# Altium integrated library Lattice FPGA ECP2.IntLib: 320 symbols (part 6 of 42)
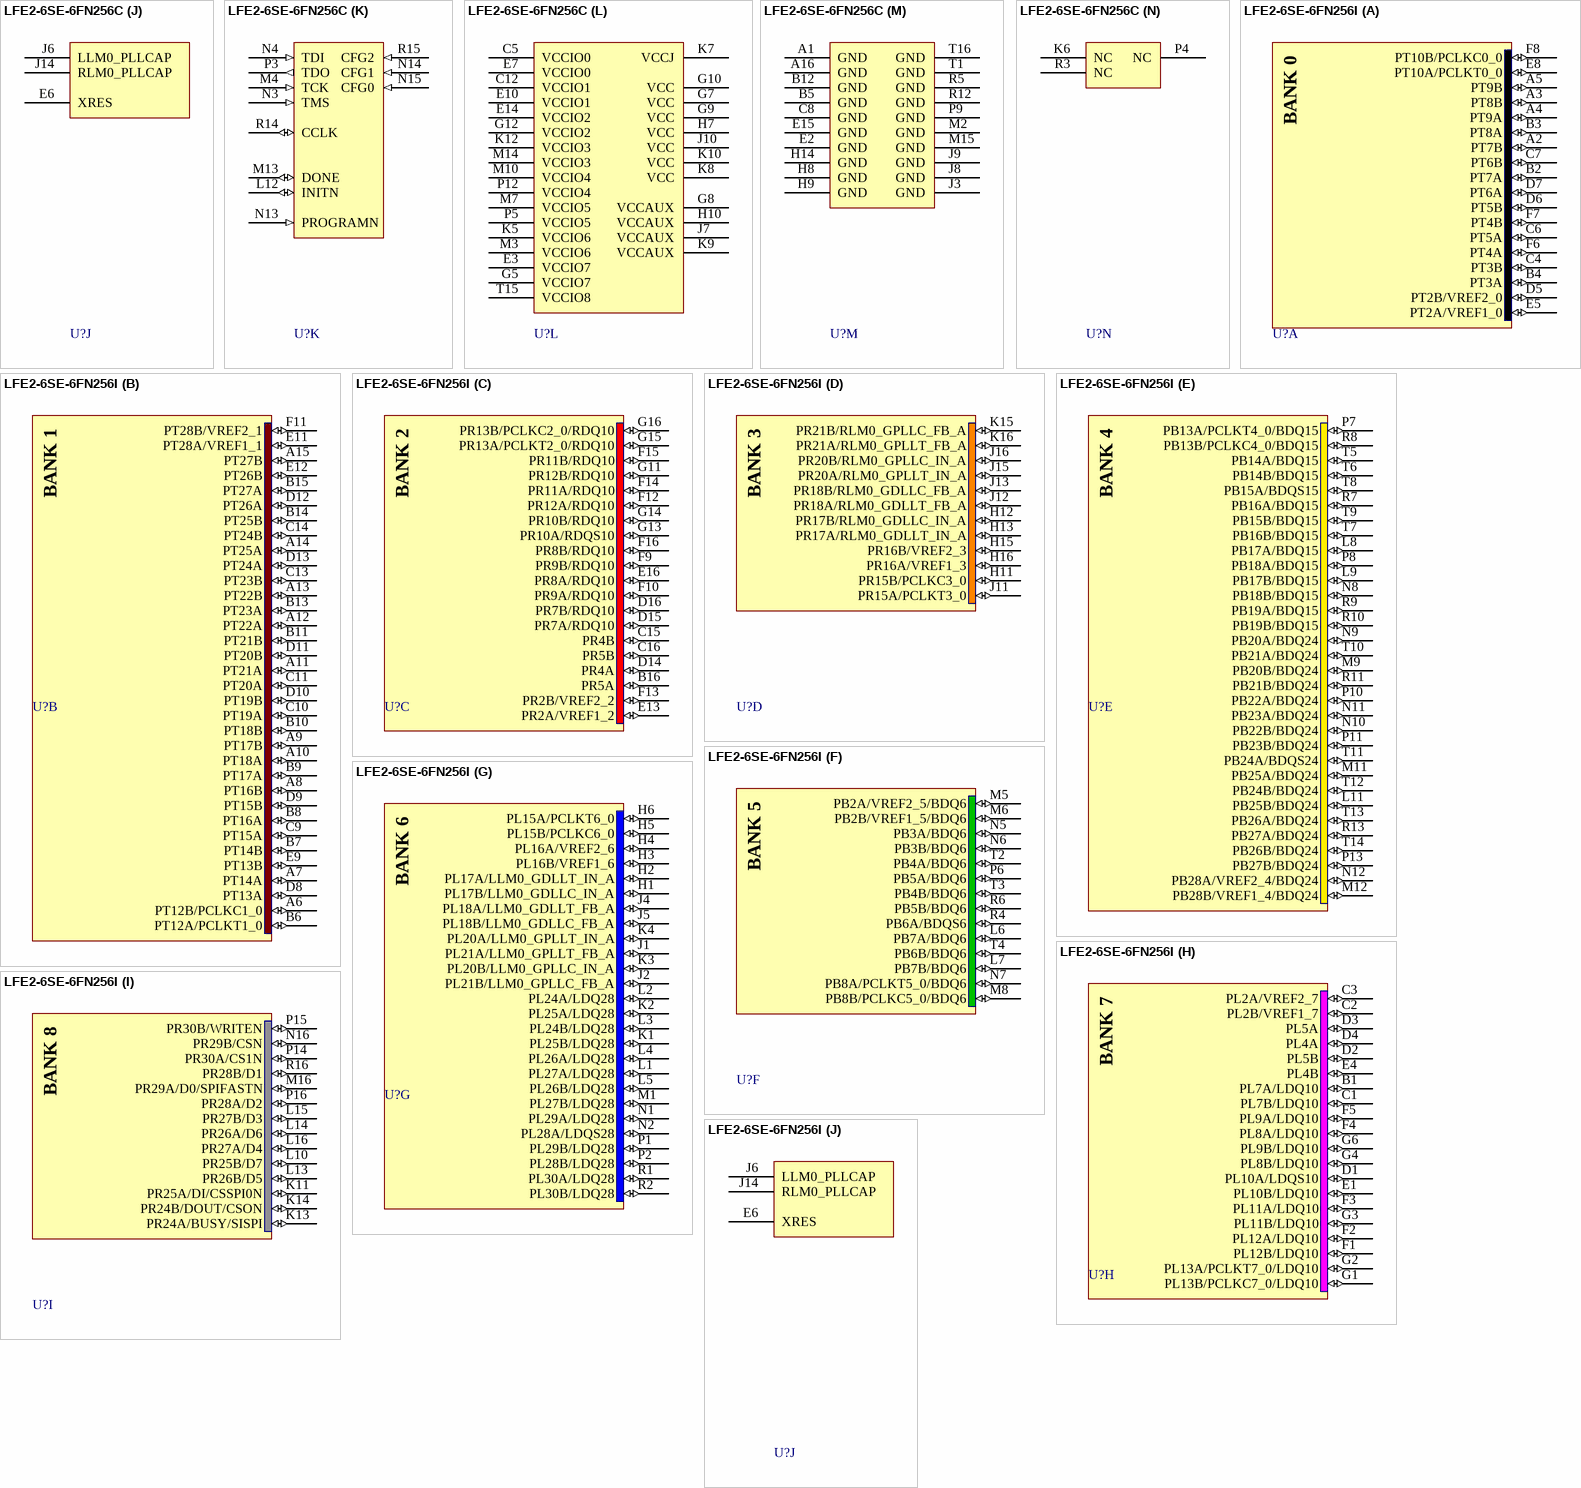
[diagram p501: symbols LFE2-6SE-6FN256C to LFE2-6SE-6FN256I]

## LFE2-6SE-6FN256C
designator U?
ECP2 1.2V FPGA, Security Series, 190 I/Os, 6K LUTs, 256-Ball fpBGA, Speed Grade 6, Commercial Grade, Pb-Free; Published: 30-Apr-2009; DatasheetVersion: ver04.3, Mar-2009; PackageVersion: ver01.8, Dec-2008; PackageReference: fpBGA256; Publisher: Altium Limited; PackageDescription: 256-Ball Fine Pitch Ball Grid Array (fpBGA256); Code_IPC: BGA100P16X16-256; ComponentLink1Description: Manufacturer Link; ComponentLink1URL: http://www.latticesemi.com/products/fpga/ecp2/index.cfm; ComponentLink2Description: Datasheet; ComponentLink2URL: http://www.latticesemi.com/documents/HB1003.pdf
footprint fpBGA256 (BGA, 256-Leads, Body 17x17mm, Pitch 1mm)
3D model LFE2-6SE_F256 (256-Ball Fine Pitch Ball Grid Array (fpBGA256))
part A pins: A2 PT7B (io), A3 PT8B (io), A4 PT9A (io), A5 PT9B (io), B2 PT7A (io), B3 PT8A (io), B4 PT3A (io), C4 PT3B (io), C6 PT5A (io), C7 PT6B (io), D5 PT2B/VREF2_0 (io), D6 PT5B (io), D7 PT6A (io), E5 PT2A/VREF1_0 (io), E8 PT10A/PCLKT0_0 (io), F6 PT4A (io), F7 PT4B (io), F8 PT10B/PCLKC0_0 (io)
part B pins: A6 PT12B/PCLKC1_0 (io), A7 PT14A (io), A8 PT16B (io), A9 PT17B (io), A10 PT18A (io), A11 PT21A (io), A12 PT22A (io), A13 PT22B (io), A14 PT25A (io), A15 PT27B (io), B6 PT12A/PCLKT1_0 (io), B7 PT14B (io), B8 PT16A (io), B9 PT17A (io), B10 PT18B (io), B11 PT21B (io), B13 PT23A (io), B14 PT25B (io), B15 PT27A (io), C9 PT15A (io), C10 PT19A (io), C11 PT20A (io), C13 PT23B (io), C14 PT24B (io), D8 PT13A (io), D9 PT15B (io), D10 PT19B (io), D11 PT20B (io), D12 PT26A (io), D13 PT24A (io), E9 PT13B (io), E11 PT28A/VREF1_1 (io), E12 PT26B (io), F11 PT28B/VREF2_1 (io)
part C pins: B16 PR5A (io), C15 PR4B (io), C16 PR5B (io), D14 PR4A (io), D15 PR7A/RDQ10 (io), D16 PR7B/RDQ10 (io), E13 PR2A/VREF1_2 (io), E16 PR8A/RDQ10 (io), F9 PR9B/RDQ10 (io), F10 PR9A/RDQ10 (io), F12 PR12A/RDQ10 (io), F13 PR2B/VREF2_2 (io), F14 PR11A/RDQ10 (io), F15 PR11B/RDQ10 (io), F16 PR8B/RDQ10 (io), G11 PR12B/RDQ10 (io), G13 PR10A/RDQS10 (io), G14 PR10B/RDQ10 (io), G15 PR13A/PCLKT2_0/RDQ10 (io), G16 PR13B/PCLKC2_0/RDQ10 (io)
part D pins: H11 PR15B/PCLKC3_0 (io), H12 PR17B/RLM0_GDLLC_IN_A (io), H13 PR17A/RLM0_GDLLT_IN_A (io), H15 PR16B/VREF2_3 (io), H16 PR16A/VREF1_3 (io), J11 PR15A/PCLKT3_0 (io), J12 PR18A/RLM0_GDLLT_FB_A (io), J13 PR18B/RLM0_GDLLC_FB_A (io), J15 PR20A/RLM0_GPLLT_IN_A (io), J16 PR20B/RLM0_GPLLC_IN_A (io), K15 PR21B/RLM0_GPLLC_FB_A (io), K16 PR21A/RLM0_GPLLT_FB_A (io)
part E pins: L8 PB17A/BDQ15 (io), L9 PB17B/BDQ15 (io), L11 PB25B/BDQ24 (io), M9 PB20B/BDQ24 (io), M11 PB25A/BDQ24 (io), M12 PB28B/VREF1_4/BDQ24 (io), N8 PB18B/BDQ15 (io), N9 PB20A/BDQ24 (io), N10 PB22B/BDQ24 (io), N11 PB23A/BDQ24 (io), N12 PB28A/VREF2_4/BDQ24 (io), P7 PB13A/PCLKT4_0/BDQ15 (io), P8 PB18A/BDQ15 (io), P10 PB22A/BDQ24 (io), P11 PB23B/BDQ24 (io), P13 PB27B/BDQ24 (io), R7 PB16A/BDQ15 (io), R8 PB13B/PCLKC4_0/BDQ15 (io), R9 PB19A/BDQ15 (io), R10 PB19B/BDQ15 (io), R11 PB21B/BDQ24 (io), R13 PB27A/BDQ24 (io), T5 PB14A/BDQ15 (io), T6 PB14B/BDQ15 (io), T7 PB16B/BDQ15 (io), T8 PB15A/BDQS15 (io), T9 PB15B/BDQ15 (io), T10 PB21A/BDQ24 (io), T11 PB24A/BDQS24 (io), T12 PB24B/BDQ24 (io), T13 PB26A/BDQ24 (io), T14 PB26B/BDQ24 (io)
part F pins: L6 PB7A/BDQ6 (io), L7 PB7B/BDQ6 (io), M5 PB2A/VREF2_5/BDQ6 (io), M6 PB2B/VREF1_5/BDQ6 (io), M8 PB8B/PCLKC5_0/BDQ6 (io), N5 PB3A/BDQ6 (io), N6 PB3B/BDQ6 (io), N7 PB8A/PCLKT5_0/BDQ6 (io), P6 PB5A/BDQ6 (io), R4 PB6A/BDQS6 (io), R6 PB5B/BDQ6 (io), T2 PB4A/BDQ6 (io), T3 PB4B/BDQ6 (io), T4 PB6B/BDQ6 (io)
part G pins: H1 PL17B/LLM0_GDLLC_IN_A (io), H2 PL17A/LLM0_GDLLT_IN_A (io), H3 PL16B/VREF1_6 (io), H4 PL16A/VREF2_6 (io), H5 PL15B/PCLKC6_0 (io), H6 PL15A/PCLKT6_0 (io), J1 PL21A/LLM0_GPLLT_FB_A (io), J2 PL21B/LLM0_GPLLC_FB_A (io), J4 PL18A/LLM0_GDLLT_FB_A (io), J5 PL18B/LLM0_GDLLC_FB_A (io), K1 PL25B/LDQ28 (io), K2 PL25A/LDQ28 (io), K3 PL20B/LLM0_GPLLC_IN_A (io), K4 PL20A/LLM0_GPLLT_IN_A (io), L1 PL27A/LDQ28 (io), L2 PL24A/LDQ28 (io), L3 PL24B/LDQ28 (io), L4 PL26A/LDQ28 (io), L5 PL26B/LDQ28 (io), M1 PL27B/LDQ28 (io), N1 PL29A/LDQ28 (io), N2 PL28A/LDQS28 (io), P1 PL29B/LDQ28 (io), P2 PL28B/LDQ28 (io), R1 PL30A/LDQ28 (io), R2 PL30B/LDQ28 (io)
part H pins: B1 PL7A/LDQ10 (io), C1 PL7B/LDQ10 (io), C2 PL2B/VREF1_7 (io), C3 PL2A/VREF2_7 (io), D1 PL10A/LDQS10 (io), D2 PL5B (io), D3 PL5A (io), D4 PL4A (io), E1 PL10B/LDQ10 (io), E4 PL4B (io), F1 PL12B/LDQ10 (io), F2 PL12A/LDQ10 (io), F3 PL11A/LDQ10 (io), F4 PL8A/LDQ10 (io), F5 PL9A/LDQ10 (io), G1 PL13B/PCLKC7_0/LDQ10 (io), G2 PL13A/PCLKT7_0/LDQ10 (io), G3 PL11B/LDQ10 (io), G4 PL8B/LDQ10 (io), G6 PL9B/LDQ10 (io)
part I pins: K11 PR25A/DI/CSSPI0N (io), K13 PR24A/BUSY/SISPI (io), K14 PR24B/DOUT/CSON (io), L10 PR25B/D7 (io), L13 PR26B/D5 (io), L14 PR26A/D6 (io), L15 PR27B/D3 (io), L16 PR27A/D4 (io), M16 PR29A/D0/SPIFASTN (io), N16 PR29B/CSN (io), P14 PR30A/CS1N (io), P15 PR30B/WRITEN (io), P16 PR28A/D2 (io), R16 PR28B/D1 (io)
part J pins: E6 XRES, J6 LLM0_PLLCAP, J14 RLM0_PLLCAP
part K pins: L12 INITN (io), M4 TCK (in), M13 DONE (io), N3 TMS (in), N4 TDI (in), N13 PROGRAMN (in), N14 CFG1 (in), N15 CFG0 (in), P3 TDO (out), R14 CCLK (io), R15 CFG2 (in)
part L pins: C5 VCCIO0 (power), C12 VCCIO1 (power), E3 VCCIO7 (power), E7 VCCIO0 (power), E10 VCCIO1 (power), E14 VCCIO2 (power), G5 VCCIO7 (power), G7 VCC (power), G8 VCCAUX (power), G9 VCC (power), G10 VCC (power), G12 VCCIO2 (power), H7 VCC (power), H10 VCCAUX (power), J7 VCCAUX (power), J10 VCC (power), K5 VCCIO6 (power), K7 VCCJ (power), K8 VCC (power), K9 VCCAUX (power), K10 VCC (power), K12 VCCIO3 (power), M3 VCCIO6 (power), M7 VCCIO5 (power), M10 VCCIO4 (power), M14 VCCIO3 (power), P5 VCCIO5 (power), P12 VCCIO4 (power), T15 VCCIO8 (power)
part M pins: A1 GND (power), A16 GND (power), B5 GND (power), B12 GND (power), C8 GND (power), E2 GND (power), E15 GND (power), H8 GND (power), H9 GND (power), H14 GND (power), J3 GND (power), J8 GND (power), J9 GND (power), M2 GND (power), M15 GND (power), P9 GND (power), R5 GND (power), R12 GND (power), T1 GND (power), T16 GND (power)
part N pins: K6 NC, P4 NC, R3 NC
part A text: BANK 0
part B text: BANK 1
part C text: BANK 2
part D text: BANK 3
part E text: BANK 4
part F text: BANK 5
part G text: BANK 6
part H text: BANK 7
part I text: BANK 8

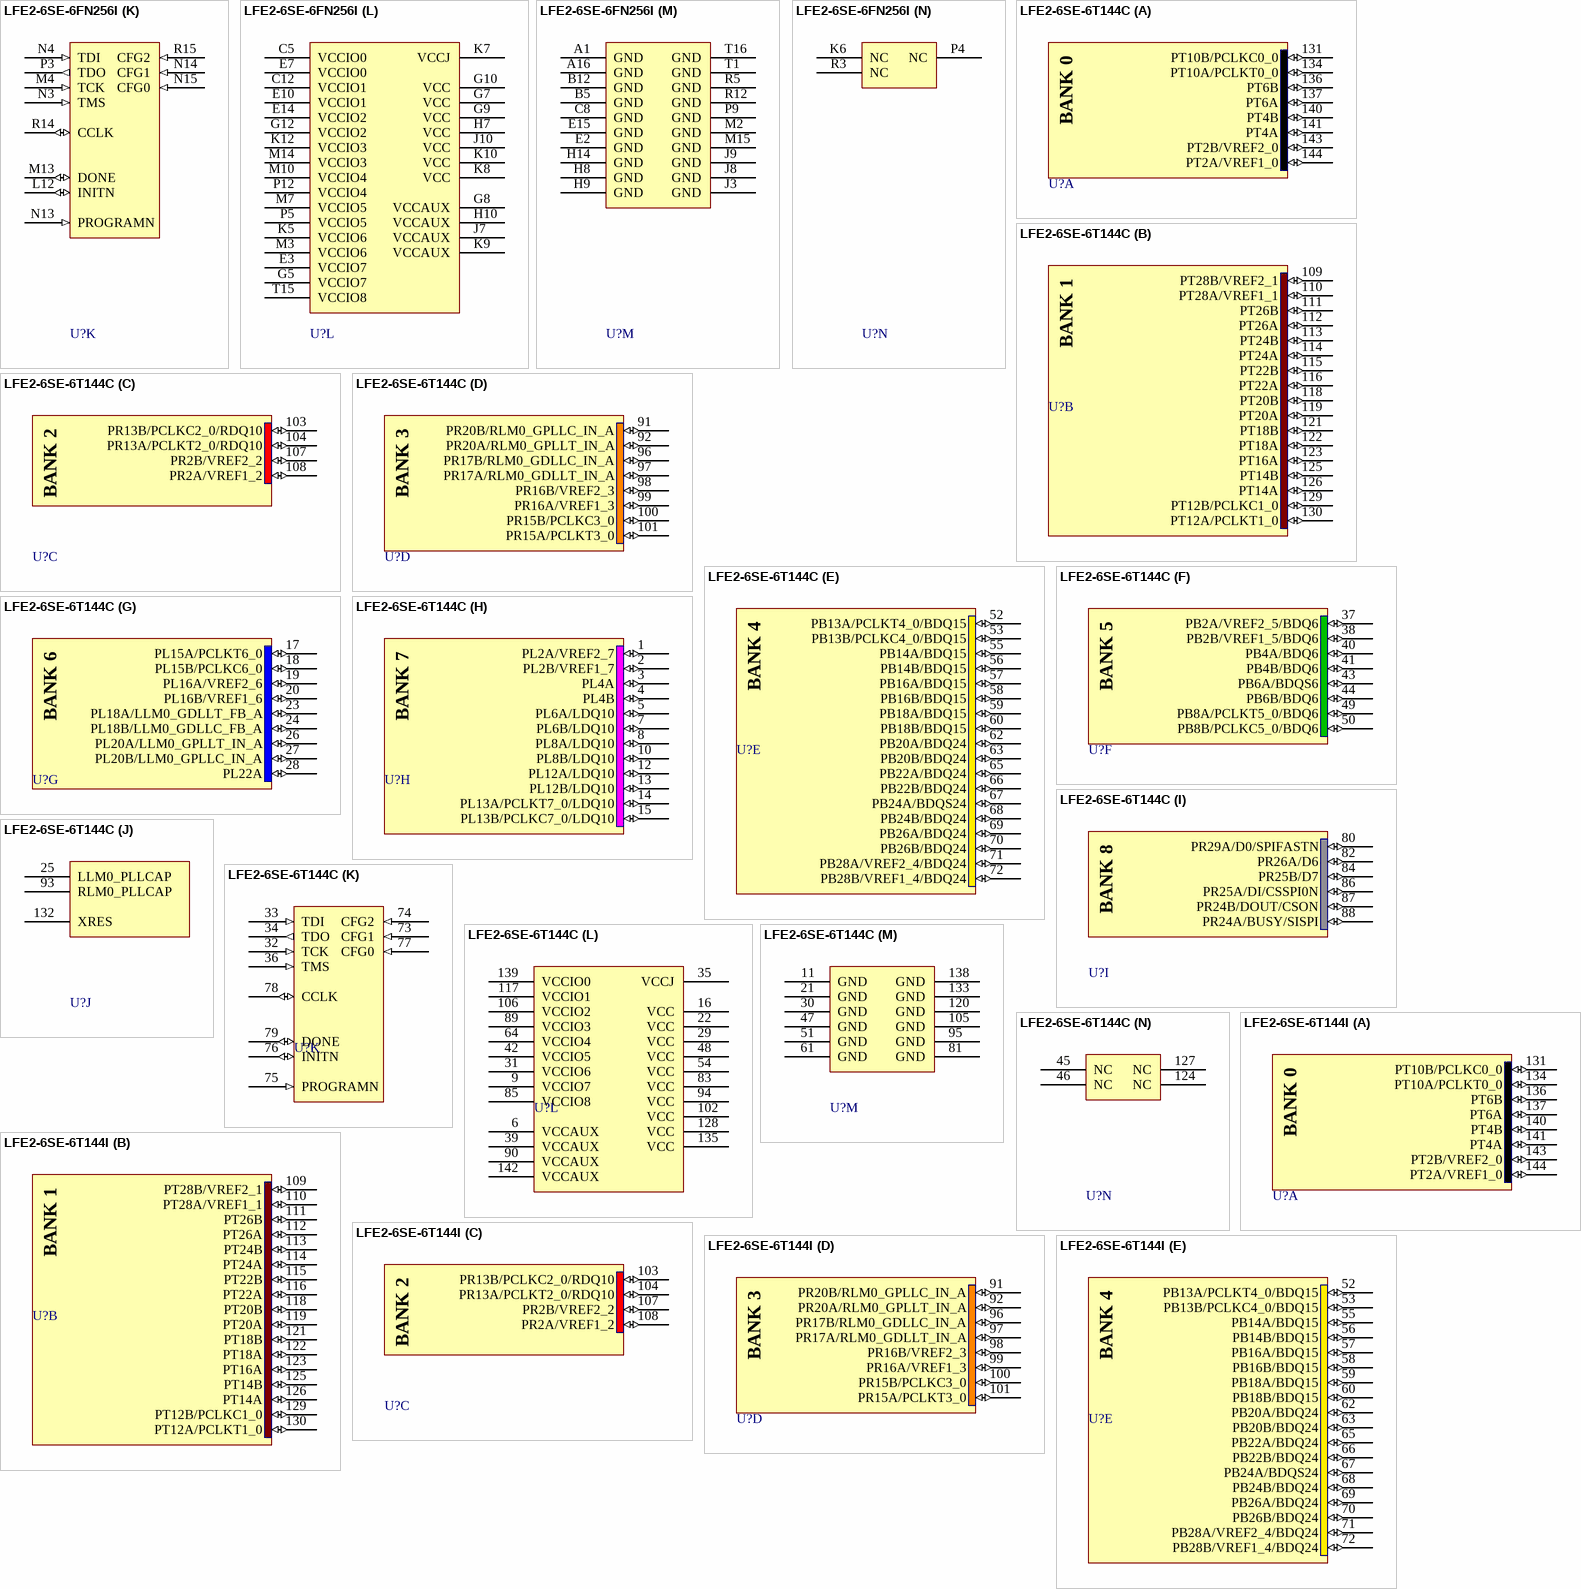
[diagram p25: symbols LFE2-6SE-6FN256I to LFE2-6SE-6T144I]